# Altium integrated library Microchip Mixed Signal.IntLib: 765 symbols (part 14 of 16)
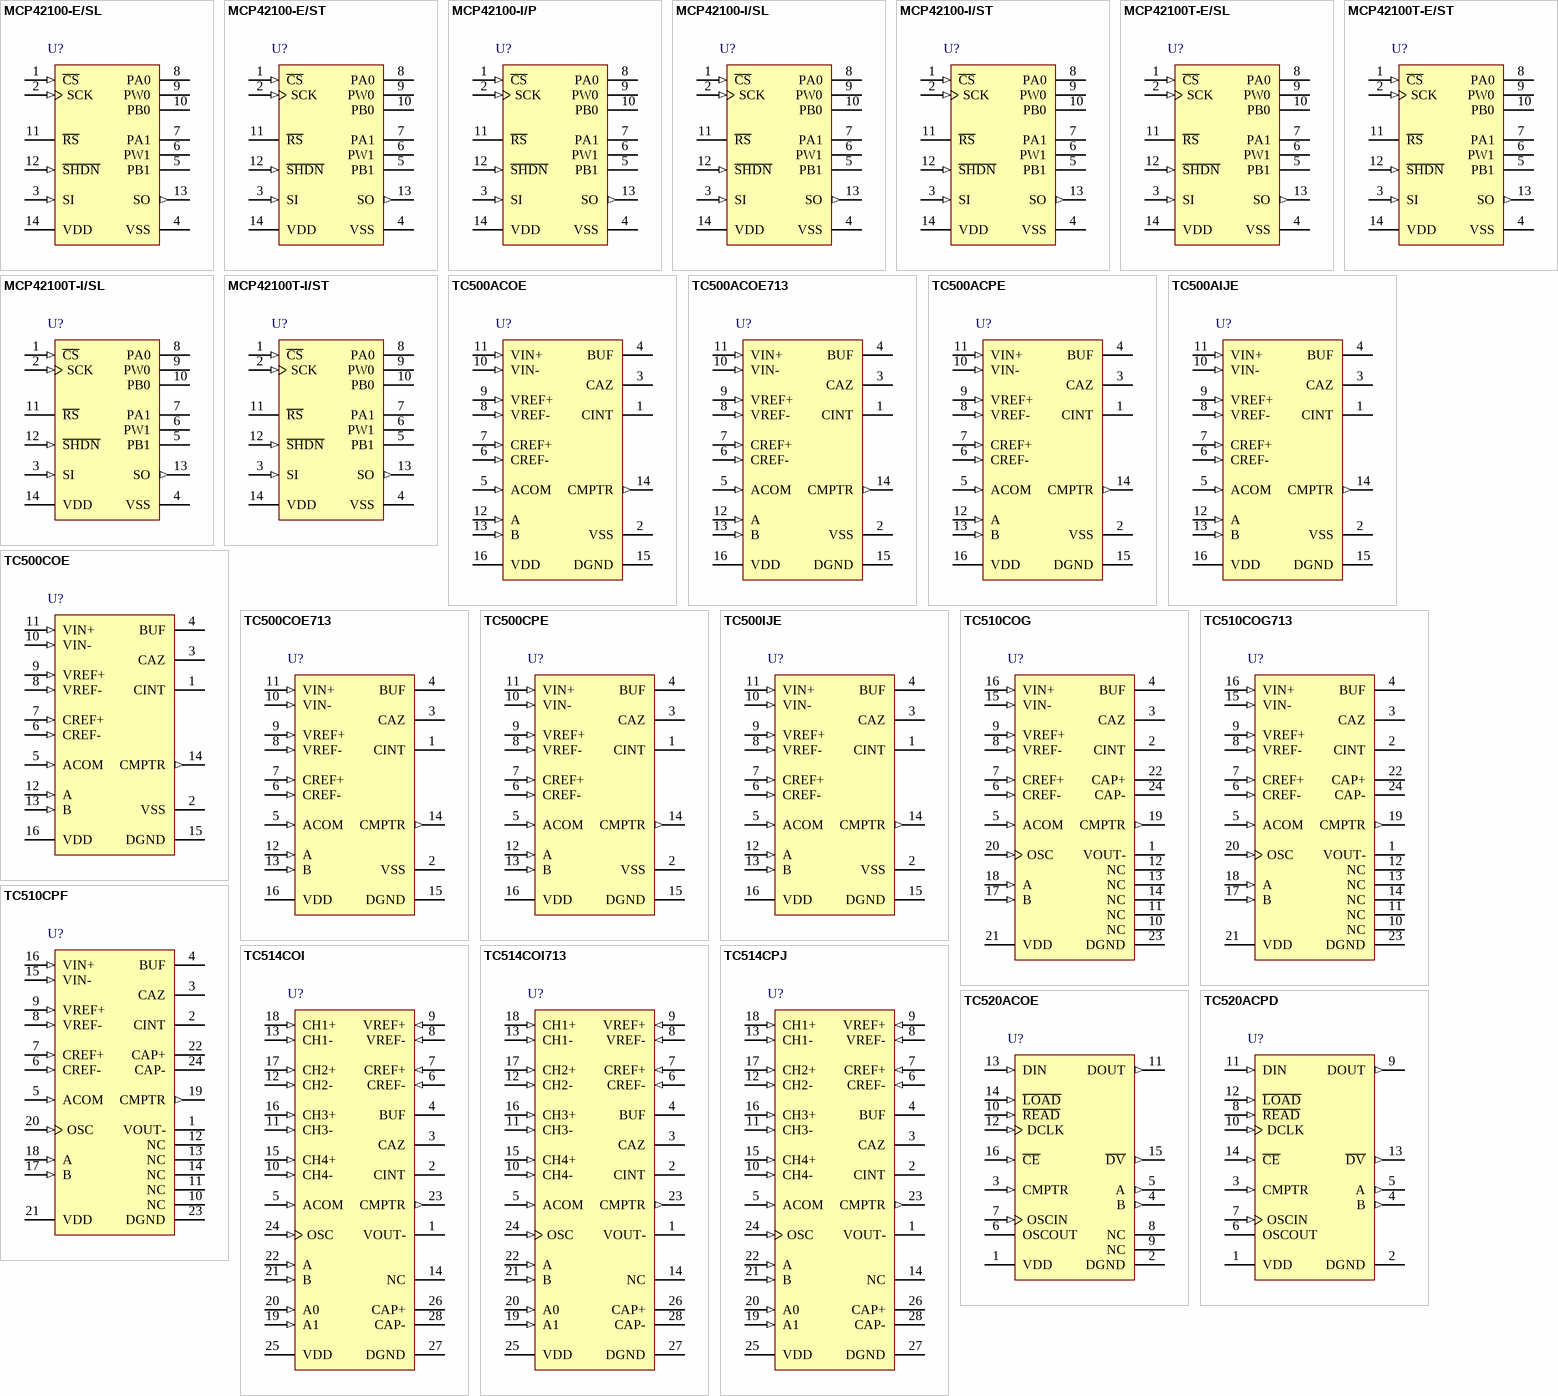
[diagram p36: symbols MCP42100-E/SL to TC520ACPD]

## MCP42100T-E/ST
designator U?
Single/Dual Digital Potentiometer with SPI Interface, 14-Pin TSSOP, Extended Temperature, Tape and Reel; Published: 29-Jan-2009; DatasheetVersion: Jul-2003; PackageVersion: revAW, Oct-2008; PackageReference: TSSOP-ST14; Publisher: Altium Limited; ComponentLink1Description: Manufacturer Link; ComponentLink1URL: http://www.microchip.com; ComponentLink2Description: Datasheet; ComponentLink2URL: http://ww1.microchip.com/downloads/en/DeviceDoc/11195c.pdf; ComponentLink3Description: Packaging Specification; ComponentLink3URL: http://ww1.microchip.com/downloads/en/PackagingSpec/00049AW.pdf
footprint TSSOP-ST14_N (TSOP, 14-Leads, Body 5x4.4mm, Pitch 0.65mm, IPC Medium Density)
footprint TSSOP-ST14_L (TSOP, 14-Leads, Body 5x4.4mm, Pitch 0.65mm, IPC High Density)
footprint TSSOP-ST14_M (TSOP, 14-Leads, Body 5x4.4mm, Pitch 0.65mm, IPC Low Density)
pins: 1 ~{CS} (in), 2 SCK (in), 3 SI (in), 4 VSS (power), 5 PB1, 6 PW1, 7 PA1, 8 PA0, 9 PW0, 10 PB0, 11 ~{RS}, 12 ~{SHDN} (in), 13 SO (out), 14 VDD (power)

## MCP42100T-I/SL
designator U?
Single/Dual Digital Potentiometer with SPI Interface, 14-Pin SOIC 150mil, Industrial Temperature, Tape and Reel; Published: 29-Jan-2009; DatasheetVersion: Jul-2003; PackageVersion: revAW, Oct-2008; PackageReference: SOIC-SL14; Publisher: Altium Limited; Code_JEDEC: MS-012-AB; Code_IPC: SOIC127P600-14; ComponentLink1Description: Manufacturer Link; ComponentLink1URL: http://www.microchip.com; ComponentLink2Description: Datasheet; ComponentLink2URL: http://ww1.microchip.com/downloads/en/DeviceDoc/11195c.pdf; ComponentLink3Description: Packaging Specification; ComponentLink3URL: http://ww1.microchip.com/downloads/en/PackagingSpec/00049AW.pdf
footprint SOIC-SL14_N (SOIC, 14-Leads, Body 8.7x3.9mm, Pitch 1.27mm, IPC Medium Density)
footprint SOIC-SL14_L (SOIC, 14-Leads, Body 8.7x3.9mm, Pitch 1.27mm, IPC High Density)
footprint SOIC-SL14_M (SOIC, 14-Leads, Body 8.7x3.9mm, Pitch 1.27mm, IPC Low Density)
pins: 1 ~{CS} (in), 2 SCK (in), 3 SI (in), 4 VSS (power), 5 PB1, 6 PW1, 7 PA1, 8 PA0, 9 PW0, 10 PB0, 11 ~{RS}, 12 ~{SHDN} (in), 13 SO (out), 14 VDD (power)

## MCP42100T-I/ST
designator U?
Single/Dual Digital Potentiometer with SPI Interface, 14-Pin TSSOP, Industrial Temperature, Tape and Reel; Published: 29-Jan-2009; DatasheetVersion: Jul-2003; PackageVersion: revAW, Oct-2008; PackageReference: TSSOP-ST14; Publisher: Altium Limited; ComponentLink1Description: Manufacturer Link; ComponentLink1URL: http://www.microchip.com; ComponentLink2Description: Datasheet; ComponentLink2URL: http://ww1.microchip.com/downloads/en/DeviceDoc/11195c.pdf; ComponentLink3Description: Packaging Specification; ComponentLink3URL: http://ww1.microchip.com/downloads/en/PackagingSpec/00049AW.pdf
footprint TSSOP-ST14_N (TSOP, 14-Leads, Body 5x4.4mm, Pitch 0.65mm, IPC Medium Density)
footprint TSSOP-ST14_L (TSOP, 14-Leads, Body 5x4.4mm, Pitch 0.65mm, IPC High Density)
footprint TSSOP-ST14_M (TSOP, 14-Leads, Body 5x4.4mm, Pitch 0.65mm, IPC Low Density)
pins: 1 ~{CS} (in), 2 SCK (in), 3 SI (in), 4 VSS (power), 5 PB1, 6 PW1, 7 PA1, 8 PA0, 9 PW0, 10 PB0, 11 ~{RS}, 12 ~{SHDN} (in), 13 SO (out), 14 VDD (power)

## TC500ACOE
designator U?
Precision Analog Front Ends, 16-Pin SOIC 300mil, Commercial Temperature; Published: 29-Jan-2009; DatasheetVersion: Jan-2006; PackageVersion: revAW, Oct-2008; PackageReference: SOIC-OE16; Publisher: Altium Limited; Code_JEDEC: MS-013-AA; Code_IPC: SOIC127P1030-16; ComponentLink1Description: Manufacturer Link; ComponentLink1URL: http://www.microchip.com; ComponentLink2Description: Datasheet; ComponentLink2URL: http://ww1.microchip.com/downloads/en/DeviceDoc/21428D.pdf; ComponentLink3Description: Packaging Specification; ComponentLink3URL: http://ww1.microchip.com/downloads/en/PackagingSpec/00049AW.pdf
footprint SOIC-OE16_N (SOIC, 16-Leads, Body 10.3x7.5mm, Pitch 1.27mm, IPC Medium Density)
footprint SOIC-OE16_L (SOIC, 16-Leads, Body 10.3x7.5mm, Pitch 1.27mm, IPC High Density)
footprint SOIC-OE16_M (SOIC, 16-Leads, Body 10.3x7.5mm, Pitch 1.27mm, IPC Low Density)
pins: 1 CINT, 2 VSS (power), 3 CAZ, 4 BUF, 5 ACOM (in), 6 CREF- (in), 7 CREF+ (in), 8 VREF- (in), 9 VREF+ (in), 10 VIN- (in), 11 VIN+ (in), 12 A (in), 13 B (in), 14 CMPTR (out), 15 DGND (power), 16 VDD (power)

## TC500ACOE713
designator U?
Precision Analog Front Ends, 16-Pin SOIC 300mil, Commercial Temperature, Tape and Reel; Published: 29-Jan-2009; DatasheetVersion: Jan-2006; PackageVersion: revAW, Oct-2008; PackageReference: SOIC-OE16; Publisher: Altium Limited; Code_JEDEC: MS-013-AA; Code_IPC: SOIC127P1030-16; ComponentLink1Description: Manufacturer Link; ComponentLink1URL: http://www.microchip.com; ComponentLink2Description: Datasheet; ComponentLink2URL: http://ww1.microchip.com/downloads/en/DeviceDoc/21428D.pdf; ComponentLink3Description: Packaging Specification; ComponentLink3URL: http://ww1.microchip.com/downloads/en/PackagingSpec/00049AW.pdf
footprint SOIC-OE16_N (SOIC, 16-Leads, Body 10.3x7.5mm, Pitch 1.27mm, IPC Medium Density)
footprint SOIC-OE16_L (SOIC, 16-Leads, Body 10.3x7.5mm, Pitch 1.27mm, IPC High Density)
footprint SOIC-OE16_M (SOIC, 16-Leads, Body 10.3x7.5mm, Pitch 1.27mm, IPC Low Density)
pins: 1 CINT, 2 VSS (power), 3 CAZ, 4 BUF, 5 ACOM (in), 6 CREF- (in), 7 CREF+ (in), 8 VREF- (in), 9 VREF+ (in), 10 VIN- (in), 11 VIN+ (in), 12 A (in), 13 B (in), 14 CMPTR (out), 15 DGND (power), 16 VDD (power)

## TC500ACPE
designator U?
Precision Analog Front Ends, 16-Pin PDIP, Commercial Temperature; Published: 29-Jan-2009; DatasheetVersion: Jan-2006; PackageVersion: revAW, Oct-2008; PackageReference: PDIP300-PE16; Publisher: Altium Limited; Code_JEDEC: MS-001-BB; ComponentLink1Description: Manufacturer Link; ComponentLink1URL: http://www.microchip.com; ComponentLink2Description: Datasheet; ComponentLink2URL: http://ww1.microchip.com/downloads/en/DeviceDoc/21428D.pdf; ComponentLink3Description: Packaging Specification; ComponentLink3URL: http://ww1.microchip.com/downloads/en/PackagingSpec/00049AW.pdf
footprint PDIP300-PE16 (DIP, 16-Leads, Row Spacing 7.62mm, Pitch 2.54mm, Body 19.2x6.6mm)
pins: 1 CINT, 2 VSS (power), 3 CAZ, 4 BUF, 5 ACOM (in), 6 CREF- (in), 7 CREF+ (in), 8 VREF- (in), 9 VREF+ (in), 10 VIN- (in), 11 VIN+ (in), 12 A (in), 13 B (in), 14 CMPTR (out), 15 DGND (power), 16 VDD (power)

## TC500AIJE
designator U?
Precision Analog Front Ends, 16-Pin CERDIP, Industrial Temperature; Published: 29-Jan-2009; DatasheetVersion: Jan-2006; PackageVersion: revAW, Oct-2008; PackageReference: CERDIP300-JE16; Publisher: Altium Limited; ComponentLink1Description: Manufacturer Link; ComponentLink1URL: http://www.microchip.com; ComponentLink2Description: Datasheet; ComponentLink2URL: http://ww1.microchip.com/downloads/en/DeviceDoc/21428D.pdf; ComponentLink3Description: Packaging Specification; ComponentLink3URL: http://ww1.microchip.com/downloads/en/PackagingSpec/00049AW.pdf
footprint CERDIP300-JE16 (DIP, 16-Leads, Row Spacing 7.62mm, Pitch 2.54mm, Body 19.3x6.9mm)
pins: 1 CINT, 2 VSS (power), 3 CAZ, 4 BUF, 5 ACOM (in), 6 CREF- (in), 7 CREF+ (in), 8 VREF- (in), 9 VREF+ (in), 10 VIN- (in), 11 VIN+ (in), 12 A (in), 13 B (in), 14 CMPTR (out), 15 DGND (power), 16 VDD (power)

## TC500COE
designator U?
Precision Analog Front Ends, 16-Pin SOIC 300mil, Commercial Temperature; Published: 29-Jan-2009; DatasheetVersion: Jan-2006; PackageVersion: revAW, Oct-2008; PackageReference: SOIC-OE16; Publisher: Altium Limited; Code_JEDEC: MS-013-AA; Code_IPC: SOIC127P1030-16; ComponentLink1Description: Manufacturer Link; ComponentLink1URL: http://www.microchip.com; ComponentLink2Description: Datasheet; ComponentLink2URL: http://ww1.microchip.com/downloads/en/DeviceDoc/21428D.pdf; ComponentLink3Description: Packaging Specification; ComponentLink3URL: http://ww1.microchip.com/downloads/en/PackagingSpec/00049AW.pdf
footprint SOIC-OE16_N (SOIC, 16-Leads, Body 10.3x7.5mm, Pitch 1.27mm, IPC Medium Density)
footprint SOIC-OE16_L (SOIC, 16-Leads, Body 10.3x7.5mm, Pitch 1.27mm, IPC High Density)
footprint SOIC-OE16_M (SOIC, 16-Leads, Body 10.3x7.5mm, Pitch 1.27mm, IPC Low Density)
pins: 1 CINT, 2 VSS (power), 3 CAZ, 4 BUF, 5 ACOM (in), 6 CREF- (in), 7 CREF+ (in), 8 VREF- (in), 9 VREF+ (in), 10 VIN- (in), 11 VIN+ (in), 12 A (in), 13 B (in), 14 CMPTR (out), 15 DGND (power), 16 VDD (power)

## TC500COE713
designator U?
Precision Analog Front Ends, 16-Pin SOIC 300mil, Commercial Temperature, Tape and Reel; Published: 29-Jan-2009; DatasheetVersion: Jan-2006; PackageVersion: revAW, Oct-2008; PackageReference: SOIC-OE16; Publisher: Altium Limited; Code_JEDEC: MS-013-AA; Code_IPC: SOIC127P1030-16; ComponentLink1Description: Manufacturer Link; ComponentLink1URL: http://www.microchip.com; ComponentLink2Description: Datasheet; ComponentLink2URL: http://ww1.microchip.com/downloads/en/DeviceDoc/21428D.pdf; ComponentLink3Description: Packaging Specification; ComponentLink3URL: http://ww1.microchip.com/downloads/en/PackagingSpec/00049AW.pdf
footprint SOIC-OE16_N (SOIC, 16-Leads, Body 10.3x7.5mm, Pitch 1.27mm, IPC Medium Density)
footprint SOIC-OE16_L (SOIC, 16-Leads, Body 10.3x7.5mm, Pitch 1.27mm, IPC High Density)
footprint SOIC-OE16_M (SOIC, 16-Leads, Body 10.3x7.5mm, Pitch 1.27mm, IPC Low Density)
pins: 1 CINT, 2 VSS (power), 3 CAZ, 4 BUF, 5 ACOM (in), 6 CREF- (in), 7 CREF+ (in), 8 VREF- (in), 9 VREF+ (in), 10 VIN- (in), 11 VIN+ (in), 12 A (in), 13 B (in), 14 CMPTR (out), 15 DGND (power), 16 VDD (power)

## TC500CPE
designator U?
Precision Analog Front Ends, 16-Pin PDIP, Commercial Temperature; Published: 29-Jan-2009; DatasheetVersion: Jan-2006; PackageVersion: revAW, Oct-2008; PackageReference: PDIP300-PE16; Publisher: Altium Limited; Code_JEDEC: MS-001-BB; ComponentLink1Description: Manufacturer Link; ComponentLink1URL: http://www.microchip.com; ComponentLink2Description: Datasheet; ComponentLink2URL: http://ww1.microchip.com/downloads/en/DeviceDoc/21428D.pdf; ComponentLink3Description: Packaging Specification; ComponentLink3URL: http://ww1.microchip.com/downloads/en/PackagingSpec/00049AW.pdf
footprint PDIP300-PE16 (DIP, 16-Leads, Row Spacing 7.62mm, Pitch 2.54mm, Body 19.2x6.6mm)
pins: 1 CINT, 2 VSS (power), 3 CAZ, 4 BUF, 5 ACOM (in), 6 CREF- (in), 7 CREF+ (in), 8 VREF- (in), 9 VREF+ (in), 10 VIN- (in), 11 VIN+ (in), 12 A (in), 13 B (in), 14 CMPTR (out), 15 DGND (power), 16 VDD (power)

## TC500IJE
designator U?
Precision Analog Front Ends, 16-Pin CERDIP, Industrial Temperature; Published: 29-Jan-2009; DatasheetVersion: Jan-2006; PackageVersion: revAW, Oct-2008; PackageReference: CERDIP300-JE16; Publisher: Altium Limited; ComponentLink1Description: Manufacturer Link; ComponentLink1URL: http://www.microchip.com; ComponentLink2Description: Datasheet; ComponentLink2URL: http://ww1.microchip.com/downloads/en/DeviceDoc/21428D.pdf; ComponentLink3Description: Packaging Specification; ComponentLink3URL: http://ww1.microchip.com/downloads/en/PackagingSpec/00049AW.pdf
footprint CERDIP300-JE16 (DIP, 16-Leads, Row Spacing 7.62mm, Pitch 2.54mm, Body 19.3x6.9mm)
pins: 1 CINT, 2 VSS (power), 3 CAZ, 4 BUF, 5 ACOM (in), 6 CREF- (in), 7 CREF+ (in), 8 VREF- (in), 9 VREF+ (in), 10 VIN- (in), 11 VIN+ (in), 12 A (in), 13 B (in), 14 CMPTR (out), 15 DGND (power), 16 VDD (power)

## TC510COG
designator U?
Precision Analog Front Ends, 24-Pin SOIC 300mil, Commercial Temperature; Published: 29-Jan-2009; DatasheetVersion: Jan-2006; PackageVersion: revAW, Oct-2008; PackageReference: SOIC-OG24; Publisher: Altium Limited; Code_JEDEC: MS-013-AD; ComponentLink1Description: Manufacturer Link; ComponentLink1URL: http://www.microchip.com; ComponentLink2Description: Datasheet; ComponentLink2URL: http://ww1.microchip.com/downloads/en/DeviceDoc/21428D.pdf; ComponentLink3Description: Packaging Specification; ComponentLink3URL: http://ww1.microchip.com/downloads/en/PackagingSpec/00049AW.pdf
footprint SOIC-OG24_N (SOIC, 24-Leads, Body 15.4x7.5mm, Pitch 1.27mm, IPC Medium Density)
footprint SOIC-OG24_L (SOIC, 24-Leads, Body 15.4x7.5mm, Pitch 1.27mm, IPC High Density)
footprint SOIC-OG24_M (SOIC, 24-Leads, Body 15.4x7.5mm, Pitch 1.27mm, IPC Low Density)
pins: 1 VOUT- (power), 2 CINT, 3 CAZ, 4 BUF, 5 ACOM (in), 6 CREF- (in), 7 CREF+ (in), 8 VREF- (in), 9 VREF+ (in), 10 NC, 11 NC, 12 NC, 13 NC, 14 NC, 15 VIN- (in), 16 VIN+ (in), 17 B (in), 18 A (in), 19 CMPTR (out), 20 OSC (in), 21 VDD (power), 22 CAP+, 23 DGND (power), 24 CAP-

## TC510COG713
designator U?
Precision Analog Front Ends, 24-Pin SOIC 300mil, Commercial Temperature, Tape and Reel; Published: 29-Jan-2009; DatasheetVersion: Jan-2006; PackageVersion: revAW, Oct-2008; PackageReference: SOIC-OG24; Publisher: Altium Limited; Code_JEDEC: MS-013-AD; ComponentLink1Description: Manufacturer Link; ComponentLink1URL: http://www.microchip.com; ComponentLink2Description: Datasheet; ComponentLink2URL: http://ww1.microchip.com/downloads/en/DeviceDoc/21428D.pdf; ComponentLink3Description: Packaging Specification; ComponentLink3URL: http://ww1.microchip.com/downloads/en/PackagingSpec/00049AW.pdf
footprint SOIC-OG24_N (SOIC, 24-Leads, Body 15.4x7.5mm, Pitch 1.27mm, IPC Medium Density)
footprint SOIC-OG24_L (SOIC, 24-Leads, Body 15.4x7.5mm, Pitch 1.27mm, IPC High Density)
footprint SOIC-OG24_M (SOIC, 24-Leads, Body 15.4x7.5mm, Pitch 1.27mm, IPC Low Density)
pins: 1 VOUT- (power), 2 CINT, 3 CAZ, 4 BUF, 5 ACOM (in), 6 CREF- (in), 7 CREF+ (in), 8 VREF- (in), 9 VREF+ (in), 10 NC, 11 NC, 12 NC, 13 NC, 14 NC, 15 VIN- (in), 16 VIN+ (in), 17 B (in), 18 A (in), 19 CMPTR (out), 20 OSC (in), 21 VDD (power), 22 CAP+, 23 DGND (power), 24 CAP-

## TC510CPF
designator U?
Precision Analog Front Ends, 24-Pin PDIP 300mil, Commercial Temperature; Published: 29-Jan-2009; DatasheetVersion: Jan-2006; PackageVersion: revAW, Oct-2008; PackageReference: SPDIP300-PF24; Publisher: Altium Limited; Code_JEDEC: MS-001-AF; ComponentLink1Description: Manufacturer Link; ComponentLink1URL: http://www.microchip.com; ComponentLink2Description: Datasheet; ComponentLink2URL: http://ww1.microchip.com/downloads/en/DeviceDoc/21428D.pdf; ComponentLink3Description: Packaging Specification; ComponentLink3URL: http://ww1.microchip.com/downloads/en/PackagingSpec/00049AW.pdf
footprint SPDIP300-PF24 (DIP, 24-Leads, Row Spacing 7.62mm, Pitch 2.54mm, Body 30.9x6.6mm)
pins: 1 VOUT- (power), 2 CINT, 3 CAZ, 4 BUF, 5 ACOM (in), 6 CREF- (in), 7 CREF+ (in), 8 VREF- (in), 9 VREF+ (in), 10 NC, 11 NC, 12 NC, 13 NC, 14 NC, 15 VIN- (in), 16 VIN+ (in), 17 B (in), 18 A (in), 19 CMPTR (out), 20 OSC (in), 21 VDD (power), 22 CAP+, 23 DGND (power), 24 CAP-

## TC514COI
designator U?
Precision Analog Front Ends, 28-Pin SOIC 300mil, Commercial Temperature; Published: 29-Jan-2009; DatasheetVersion: Jan-2006; PackageVersion: revAW, Oct-2008; PackageReference: SOIC-OI28; Publisher: Altium Limited; Code_JEDEC: MS-013-AE; ComponentLink1Description: Manufacturer Link; ComponentLink1URL: http://www.microchip.com; ComponentLink2Description: Datasheet; ComponentLink2URL: http://ww1.microchip.com/downloads/en/DeviceDoc/21428D.pdf; ComponentLink3Description: Packaging Specification; ComponentLink3URL: http://ww1.microchip.com/downloads/en/PackagingSpec/00049AW.pdf
footprint SOIC-OI28_N (SOIC, 28-Leads, Body 17.9x7.5mm, Pitch 1.27mm, IPC Medium Density)
footprint SOIC-OI28_L (SOIC, 28-Leads, Body 17.9x7.5mm, Pitch 1.27mm, IPC High Density)
footprint SOIC-OI28_M (SOIC, 28-Leads, Body 17.9x7.5mm, Pitch 1.27mm, IPC Low Density)
pins: 1 VOUT- (power), 2 CINT, 3 CAZ, 4 BUF, 5 ACOM (in), 6 CREF- (in), 7 CREF+ (in), 8 VREF- (in), 9 VREF+ (in), 10 CH4- (in), 11 CH3- (in), 12 CH2- (in), 13 CH1- (in), 14 NC, 15 CH4+ (in), 16 CH3+ (in), 17 CH2+ (in), 18 CH1+ (in), 19 A1 (in), 20 A0 (in), 21 B (in), 22 A (in), 23 CMPTR (out), 24 OSC (in), 25 VDD (power), 26 CAP+, 27 DGND (power), 28 CAP-

## TC514COI713
designator U?
Precision Analog Front Ends, 28-Pin SOIC 300mil, Commercial Temperature, Tape and Reel; Published: 29-Jan-2009; DatasheetVersion: Jan-2006; PackageVersion: revAW, Oct-2008; PackageReference: SOIC-OI28; Publisher: Altium Limited; Code_JEDEC: MS-013-AE; ComponentLink1Description: Manufacturer Link; ComponentLink1URL: http://www.microchip.com; ComponentLink2Description: Datasheet; ComponentLink2URL: http://ww1.microchip.com/downloads/en/DeviceDoc/21428D.pdf; ComponentLink3Description: Packaging Specification; ComponentLink3URL: http://ww1.microchip.com/downloads/en/PackagingSpec/00049AW.pdf
footprint SOIC-OI28_N (SOIC, 28-Leads, Body 17.9x7.5mm, Pitch 1.27mm, IPC Medium Density)
footprint SOIC-OI28_L (SOIC, 28-Leads, Body 17.9x7.5mm, Pitch 1.27mm, IPC High Density)
footprint SOIC-OI28_M (SOIC, 28-Leads, Body 17.9x7.5mm, Pitch 1.27mm, IPC Low Density)
pins: 1 VOUT- (power), 2 CINT, 3 CAZ, 4 BUF, 5 ACOM (in), 6 CREF- (in), 7 CREF+ (in), 8 VREF- (in), 9 VREF+ (in), 10 CH4- (in), 11 CH3- (in), 12 CH2- (in), 13 CH1- (in), 14 NC, 15 CH4+ (in), 16 CH3+ (in), 17 CH2+ (in), 18 CH1+ (in), 19 A1 (in), 20 A0 (in), 21 B (in), 22 A (in), 23 CMPTR (out), 24 OSC (in), 25 VDD (power), 26 CAP+, 27 DGND (power), 28 CAP-

## TC514CPJ
designator U?
Precision Analog Front Ends, 28-Pin SPDIP, Commercial Temperature; Published: 29-Jan-2009; DatasheetVersion: Jan-2006; PackageVersion: revAW, Oct-2008; PackageReference: SPDIP300-PJ28; Publisher: Altium Limited; ComponentLink1Description: Manufacturer Link; ComponentLink1URL: http://www.microchip.com; ComponentLink2Description: Datasheet; ComponentLink2URL: http://ww1.microchip.com/downloads/en/DeviceDoc/21428D.pdf; ComponentLink3Description: Packaging Specification; ComponentLink3URL: http://ww1.microchip.com/downloads/en/PackagingSpec/00049AW.pdf
footprint SPDIP300-PJ28 (DIP, 28-Leads, Row Spacing 7.62mm, Pitch 2.54mm, Body 34.9x6.8mm)
pins: 1 VOUT- (power), 2 CINT, 3 CAZ, 4 BUF, 5 ACOM (in), 6 CREF- (in), 7 CREF+ (in), 8 VREF- (in), 9 VREF+ (in), 10 CH4- (in), 11 CH3- (in), 12 CH2- (in), 13 CH1- (in), 14 NC, 15 CH4+ (in), 16 CH3+ (in), 17 CH2+ (in), 18 CH1+ (in), 19 A1 (in), 20 A0 (in), 21 B (in), 22 A (in), 23 CMPTR (out), 24 OSC (in), 25 VDD (power), 26 CAP+, 27 DGND (power), 28 CAP-

## TC520ACOE
designator U?
Serial Interface Adapter for TC500 A/D Converter Family, 16-Pin SOIC 300mil, Commercial Temperature; Published: 29-Jan-2009; DatasheetVersion: Apr-2002; PackageVersion: revAW, Oct-2008; PackageReference: SOIC-OE16; Publisher: Altium Limited; Code_JEDEC: MS-013-AA; Code_IPC: SOIC127P1030-16; ComponentLink1Description: Manufacturer Link; ComponentLink1URL: http://www.microchip.com; ComponentLink2Description: Datasheet; ComponentLink2URL: http://ww1.microchip.com/downloads/en/DeviceDoc/21431b.pdf; ComponentLink3Description: Packaging Specification; ComponentLink3URL: http://ww1.microchip.com/downloads/en/PackagingSpec/00049AW.pdf
footprint SOIC-OE16_N (SOIC, 16-Leads, Body 10.3x7.5mm, Pitch 1.27mm, IPC Medium Density)
footprint SOIC-OE16_L (SOIC, 16-Leads, Body 10.3x7.5mm, Pitch 1.27mm, IPC High Density)
footprint SOIC-OE16_M (SOIC, 16-Leads, Body 10.3x7.5mm, Pitch 1.27mm, IPC Low Density)
pins: 1 VDD (power), 2 DGND (power), 3 CMPTR (in), 4 B (out), 5 A (out), 6 OSCOUT, 7 OSCIN (in), 8 NC, 9 NC, 10 ~{READ} (in), 11 DOUT (out), 12 DCLK (in), 13 DIN (in), 14 ~{LOAD} (in), 15 ~{DV} (out), 16 ~{CE} (in)

## TC520ACPD
designator U?
Serial Interface Adapter for TC500 A/D Converter Family, 14-Pin PDIP, Commercial Temperature; Published: 29-Jan-2009; DatasheetVersion: Apr-2002; PackageVersion: revAW, Oct-2008; PackageReference: PDIP300-PD14; Publisher: Altium Limited; Code_JEDEC: MS-001-AA; ComponentLink1Description: Manufacturer Link; ComponentLink1URL: http://www.microchip.com; ComponentLink2Description: Datasheet; ComponentLink2URL: http://ww1.microchip.com/downloads/en/DeviceDoc/21431b.pdf; ComponentLink3Description: Packaging Specification; ComponentLink3URL: http://ww1.microchip.com/downloads/en/PackagingSpec/00049AW.pdf
footprint PDIP300-PD14 (DIP, 14-Leads, Row Spacing 7.62mm, Pitch 2.54mm, Body 19.2x6.6mm)
pins: 1 VDD (power), 2 DGND (power), 3 CMPTR (in), 4 B (out), 5 A (out), 6 OSCOUT, 7 OSCIN (in), 8 ~{READ} (in), 9 DOUT (out), 10 DCLK (in), 11 DIN (in), 12 ~{LOAD} (in), 13 ~{DV} (out), 14 ~{CE} (in)

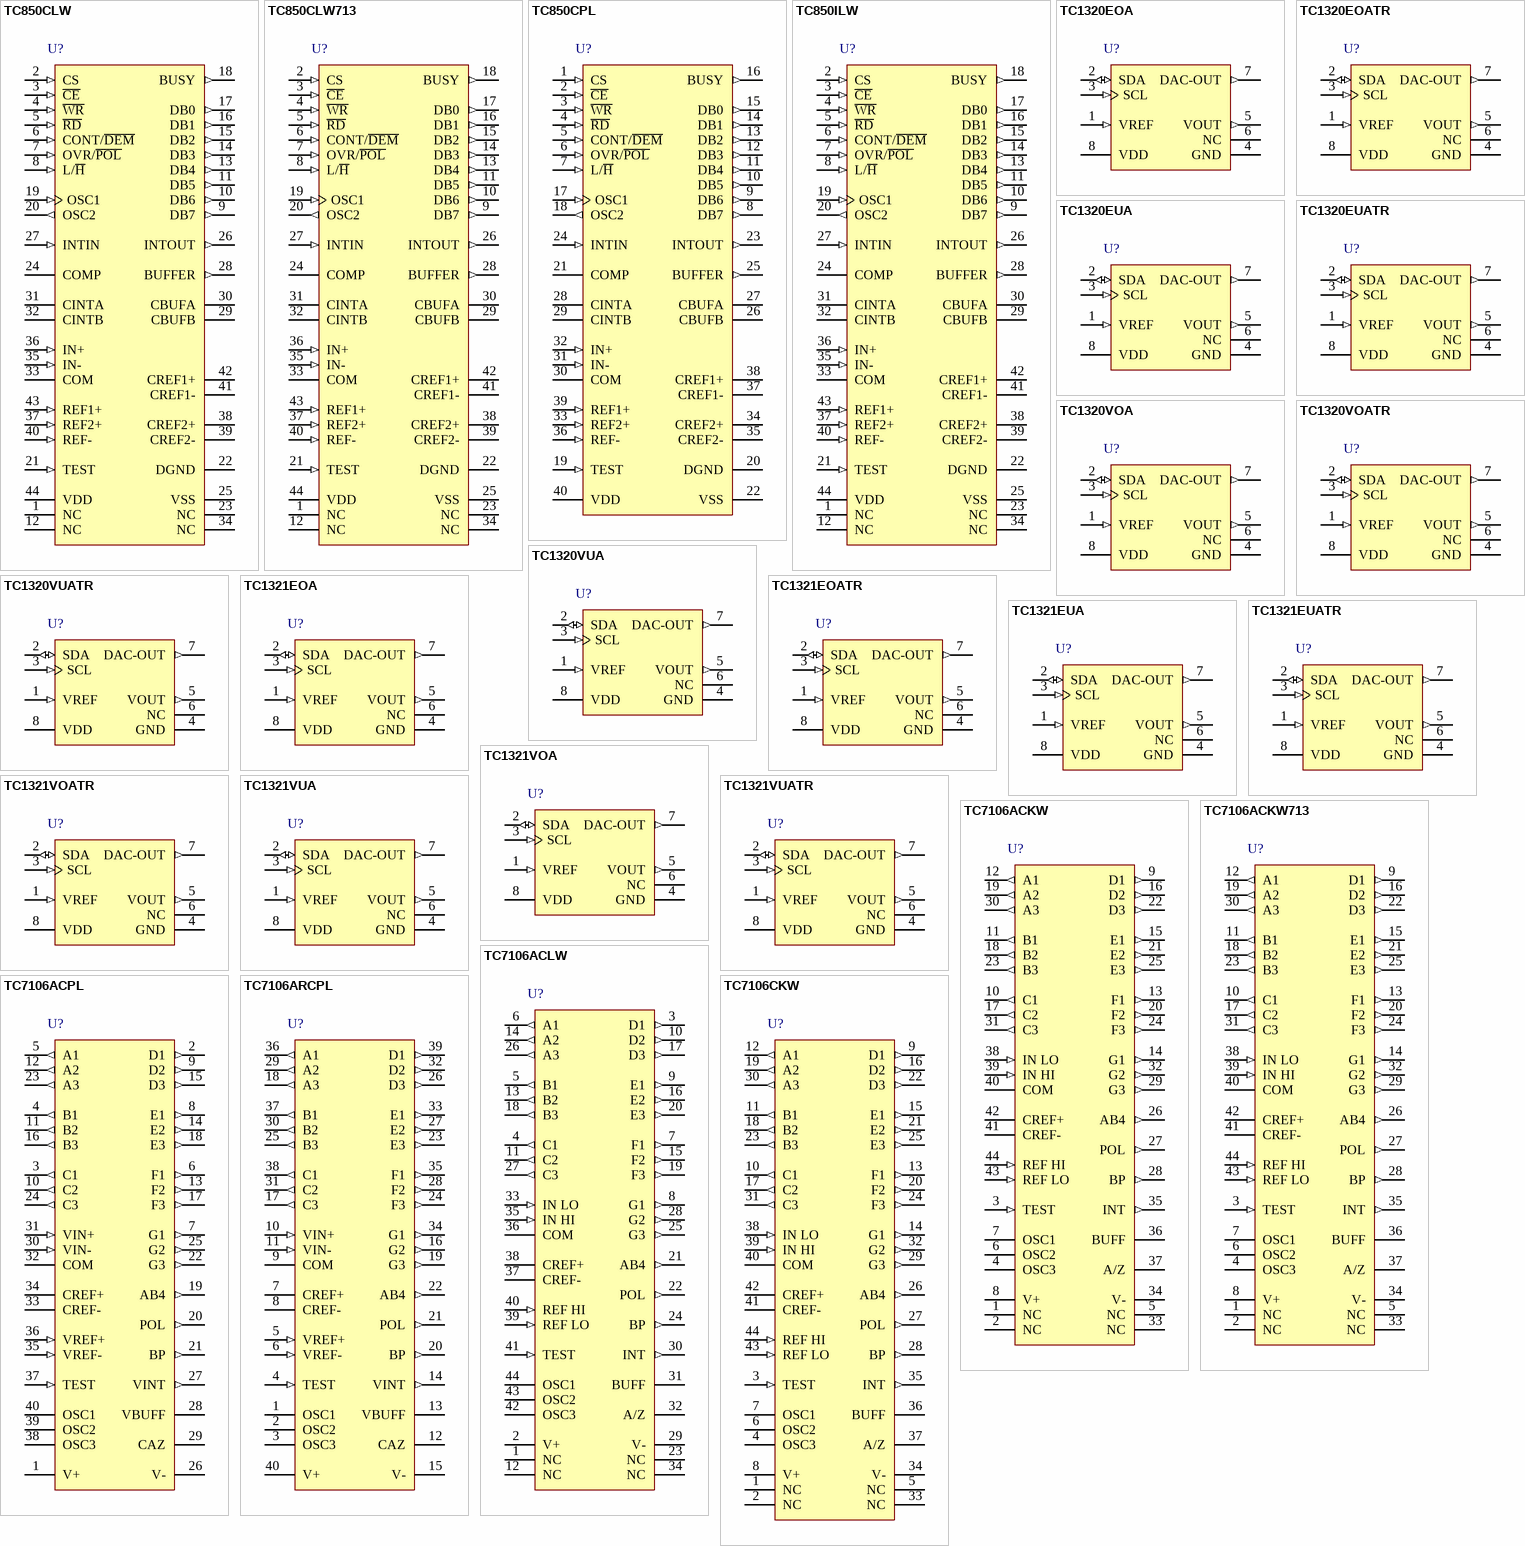
[diagram p18: symbols TC850CLW to TC7106CKW]

## TC850CLW
designator U?
15-Bit, Fast Integrating CMOS A/D Converter, 44-Pin PLCC, Commercial Temperature; Published: 29-Jan-2009; DatasheetVersion: Feb-2006; PackageVersion: revAW, Oct-2008; PackageReference: PLCC-LW44; Publisher: Altium Limited; Code_IPC: PLCC-44; ComponentLink1Description: Manufacturer Link; ComponentLink1URL: http://www.microchip.com; ComponentLink2Description: Datasheet; ComponentLink2URL: http://ww1.microchip.com/downloads/en/DeviceDoc/21479C.pdf; ComponentLink3Description: Packaging Specification; ComponentLink3URL: http://ww1.microchip.com/downloads/en/PackagingSpec/00049AW.pdf
footprint PLCC-LW44_N (Leaded Chip Carrier, 44-Leads, Body 16.6x16.6mm, Pitch 1.27mm, IPC Medium Density)
footprint PLCC-LW44_L (Leaded Chip Carrier, 44-Leads, Body 16.6x16.6mm, Pitch 1.27mm, IPC High Density)
footprint PLCC-LW44_M (Leaded Chip Carrier, 44-Leads, Body 16.6x16.6mm, Pitch 1.27mm, IPC Low Density)
pins: 1 NC, 2 CS (in), 3 ~{CE} (in), 4 ~{WR} (in), 5 ~{RD} (in), 6 CONT/~{DEM} (in), 7 OVR/~{POL} (in), 8 L/~{H} (in), 9 DB7 (out), 10 DB6 (out), 11 DB5 (out), 12 NC, 13 DB4 (out), 14 DB3 (out), 15 DB2 (out), 16 DB1 (out), 17 DB0 (out), 18 BUSY (out), 19 OSC1 (in), 20 OSC2 (out), 21 TEST (in), 22 DGND (power), 23 NC, 24 COMP, 25 VSS (power), 26 INTOUT (out), 27 INTIN (in), 28 BUFFER (out), 29 CBUFB, 30 CBUFA, 31 CINTA, 32 CINTB, 33 COM (power), 34 NC, 35 IN- (in), 36 IN+ (in), 37 REF2+ (in), 38 CREF2+, 39 CREF2-, 40 REF- (in), 41 CREF1-, 42 CREF1+, 43 REF1+ (in), 44 VDD (power)

## TC850CLW713
designator U?
15-Bit, Fast Integrating CMOS A/D Converter, 44-Pin PLCC, Commercial Temperature, Tape and Reel; Published: 29-Jan-2009; DatasheetVersion: Feb-2006; PackageVersion: revAW, Oct-2008; PackageReference: PLCC-LW44; Publisher: Altium Limited; Code_IPC: PLCC-44; ComponentLink1Description: Manufacturer Link; ComponentLink1URL: http://www.microchip.com; ComponentLink2Description: Datasheet; ComponentLink2URL: http://ww1.microchip.com/downloads/en/DeviceDoc/21479C.pdf; ComponentLink3Description: Packaging Specification; ComponentLink3URL: http://ww1.microchip.com/downloads/en/PackagingSpec/00049AW.pdf
footprint PLCC-LW44_N (Leaded Chip Carrier, 44-Leads, Body 16.6x16.6mm, Pitch 1.27mm, IPC Medium Density)
footprint PLCC-LW44_L (Leaded Chip Carrier, 44-Leads, Body 16.6x16.6mm, Pitch 1.27mm, IPC High Density)
footprint PLCC-LW44_M (Leaded Chip Carrier, 44-Leads, Body 16.6x16.6mm, Pitch 1.27mm, IPC Low Density)
pins: 1 NC, 2 CS (in), 3 ~{CE} (in), 4 ~{WR} (in), 5 ~{RD} (in), 6 CONT/~{DEM} (in), 7 OVR/~{POL} (in), 8 L/~{H} (in), 9 DB7 (out), 10 DB6 (out), 11 DB5 (out), 12 NC, 13 DB4 (out), 14 DB3 (out), 15 DB2 (out), 16 DB1 (out), 17 DB0 (out), 18 BUSY (out), 19 OSC1 (in), 20 OSC2 (out), 21 TEST (in), 22 DGND (power), 23 NC, 24 COMP, 25 VSS (power), 26 INTOUT (out), 27 INTIN (in), 28 BUFFER (out), 29 CBUFB, 30 CBUFA, 31 CINTA, 32 CINTB, 33 COM (power), 34 NC, 35 IN- (in), 36 IN+ (in), 37 REF2+ (in), 38 CREF2+, 39 CREF2-, 40 REF- (in), 41 CREF1-, 42 CREF1+, 43 REF1+ (in), 44 VDD (power)

## TC850CPL
designator U?
15-Bit, Fast Integrating CMOS A/D Converter, 40-Pin PDIP, Commercial Temperature; Published: 29-Jan-2009; DatasheetVersion: Feb-2006; PackageVersion: revAW, Oct-2008; PackageReference: PDIP600-PL40; Publisher: Altium Limited; ComponentLink1Description: Manufacturer Link; ComponentLink1URL: http://www.microchip.com; ComponentLink2Description: Datasheet; ComponentLink2URL: http://ww1.microchip.com/downloads/en/DeviceDoc/21479C.pdf; ComponentLink3Description: Packaging Specification; ComponentLink3URL: http://ww1.microchip.com/downloads/en/PackagingSpec/00049AW.pdf
footprint PDIP600-PL40 (DIP, 40-Leads, Row Spacing 15.24mm, Pitch 2.54mm, Body 51.8x13.5mm)
pins: 1 CS (in), 2 ~{CE} (in), 3 ~{WR} (in), 4 ~{RD} (in), 5 CONT/~{DEM} (in), 6 OVR/~{POL} (in), 7 L/~{H} (in), 8 DB7 (out), 9 DB6 (out), 10 DB5 (out), 11 DB4 (out), 12 DB3 (out), 13 DB2 (out), 14 DB1 (out), 15 DB0 (out), 16 BUSY (out), 17 OSC1 (in), 18 OSC2 (out), 19 TEST (in), 20 DGND (power), 21 COMP, 22 VSS (power), 23 INTOUT (out), 24 INTIN (in), 25 BUFFER (out), 26 CBUFB, 27 CBUFA, 28 CINTA, 29 CINTB, 30 COM (power), 31 IN- (in), 32 IN+ (in), 33 REF2+ (in), 34 CREF2+, 35 CREF2-, 36 REF- (in), 37 CREF1-, 38 CREF1+, 39 REF1+ (in), 40 VDD (power)

## TC850ILW
designator U?
15-Bit, Fast Integrating CMOS A/D Converter, 44-Pin PLCC, Industrial Temperature; Published: 29-Jan-2009; DatasheetVersion: Feb-2006; PackageVersion: revAW, Oct-2008; PackageReference: PLCC-LW44; Publisher: Altium Limited; Code_IPC: PLCC-44; ComponentLink1Description: Manufacturer Link; ComponentLink1URL: http://www.microchip.com; ComponentLink2Description: Datasheet; ComponentLink2URL: http://ww1.microchip.com/downloads/en/DeviceDoc/21479C.pdf; ComponentLink3Description: Packaging Specification; ComponentLink3URL: http://ww1.microchip.com/downloads/en/PackagingSpec/00049AW.pdf
footprint PLCC-LW44_N (Leaded Chip Carrier, 44-Leads, Body 16.6x16.6mm, Pitch 1.27mm, IPC Medium Density)
footprint PLCC-LW44_L (Leaded Chip Carrier, 44-Leads, Body 16.6x16.6mm, Pitch 1.27mm, IPC High Density)
footprint PLCC-LW44_M (Leaded Chip Carrier, 44-Leads, Body 16.6x16.6mm, Pitch 1.27mm, IPC Low Density)
pins: 1 NC, 2 CS (in), 3 ~{CE} (in), 4 ~{WR} (in), 5 ~{RD} (in), 6 CONT/~{DEM} (in), 7 OVR/~{POL} (in), 8 L/~{H} (in), 9 DB7 (out), 10 DB6 (out), 11 DB5 (out), 12 NC, 13 DB4 (out), 14 DB3 (out), 15 DB2 (out), 16 DB1 (out), 17 DB0 (out), 18 BUSY (out), 19 OSC1 (in), 20 OSC2 (out), 21 TEST (in), 22 DGND (power), 23 NC, 24 COMP, 25 VSS (power), 26 INTOUT (out), 27 INTIN (in), 28 BUFFER (out), 29 CBUFB, 30 CBUFA, 31 CINTA, 32 CINTB, 33 COM (power), 34 NC, 35 IN- (in), 36 IN+ (in), 37 REF2+ (in), 38 CREF2+, 39 CREF2-, 40 REF- (in), 41 CREF1-, 42 CREF1+, 43 REF1+ (in), 44 VDD (power)

## TC1320EOA
designator U?
8-Bit Digital-to-Analog Converter with Two-Wire Interface, 8-Pin SOIC 150mil, Extended Temperature; Published: 29-Jan-2009; DatasheetVersion: Jan-2002; PackageVersion: revAW, Oct-2008; PackageReference: SOIC-OA8; Publisher: Altium Limited; Code_IPC: SOIC127P600-8; ComponentLink1Description: Manufacturer Link; ComponentLink1URL: http://www.microchip.com; ComponentLink2Description: Datasheet; ComponentLink2URL: http://ww1.microchip.com/downloads/en/DeviceDoc/21386b.pdf; ComponentLink3Description: Packaging Specification; ComponentLink3URL: http://ww1.microchip.com/downloads/en/PackagingSpec/00049AW.pdf
footprint SOIC-OA8_N (SOIC, 8-Leads, Body 4.9x3.9mm, Pitch 1.27mm, IPC Medium Density)
footprint SOIC-OA8_L (SOIC, 8-Leads, Body 4.9x3.9mm, Pitch 1.27mm, IPC High Density)
footprint SOIC-OA8_M (SOIC, 8-Leads, Body 4.9x3.9mm, Pitch 1.27mm, IPC Low Density)
pins: 1 VREF (in), 2 SDA (io), 3 SCL (in), 4 GND (power), 5 VOUT (out), 6 NC, 7 DAC-OUT (out), 8 VDD (power)

## TC1320EOATR
designator U?
8-Bit Digital-to-Analog Converter with Two-Wire Interface, 8-Pin SOIC 150mil, Extended Temperature, Tape and Reel; Published: 29-Jan-2009; DatasheetVersion: Jan-2002; PackageVersion: revAW, Oct-2008; PackageReference: SOIC-OA8; Publisher: Altium Limited; Code_IPC: SOIC127P600-8; ComponentLink1Description: Manufacturer Link; ComponentLink1URL: http://www.microchip.com; ComponentLink2Description: Datasheet; ComponentLink2URL: http://ww1.microchip.com/downloads/en/DeviceDoc/21386b.pdf; ComponentLink3Description: Packaging Specification; ComponentLink3URL: http://ww1.microchip.com/downloads/en/PackagingSpec/00049AW.pdf
footprint SOIC-OA8_N (SOIC, 8-Leads, Body 4.9x3.9mm, Pitch 1.27mm, IPC Medium Density)
footprint SOIC-OA8_L (SOIC, 8-Leads, Body 4.9x3.9mm, Pitch 1.27mm, IPC High Density)
footprint SOIC-OA8_M (SOIC, 8-Leads, Body 4.9x3.9mm, Pitch 1.27mm, IPC Low Density)
pins: 1 VREF (in), 2 SDA (io), 3 SCL (in), 4 GND (power), 5 VOUT (out), 6 NC, 7 DAC-OUT (out), 8 VDD (power)

## TC1320EUA
designator U?
8-Bit Digital-to-Analog Converter with Two-Wire Interface, 8-Pin MSOP, Extended Temperature; Published: 29-Jan-2009; DatasheetVersion: Jan-2002; PackageVersion: revAW, Oct-2008; PackageReference: MSOP-UA8; Publisher: Altium Limited; Code_JEDEC: MO-187-AA; ComponentLink1Description: Manufacturer Link; ComponentLink1URL: http://www.microchip.com; ComponentLink2Description: Datasheet; ComponentLink2URL: http://ww1.microchip.com/downloads/en/DeviceDoc/21386b.pdf; ComponentLink3Description: Packaging Specification; ComponentLink3URL: http://ww1.microchip.com/downloads/en/PackagingSpec/00049AW.pdf
footprint MSOP-UA8_N (TSOP, 8-Leads, Body 3x3mm, Pitch 0.65mm, IPC Medium Density)
footprint MSOP-UA8_L (TSOP, 8-Leads, Body 3x3mm, Pitch 0.65mm, IPC High Density)
footprint MSOP-UA8_M (TSOP, 8-Leads, Body 3x3mm, Pitch 0.65mm, IPC Low Density)
pins: 1 VREF (in), 2 SDA (io), 3 SCL (in), 4 GND (power), 5 VOUT (out), 6 NC, 7 DAC-OUT (out), 8 VDD (power)

## TC1320EUATR
designator U?
8-Bit Digital-to-Analog Converter with Two-Wire Interface, 8-Pin MSOP, Extended Temperature, Tape and Reel; Published: 29-Jan-2009; DatasheetVersion: Jan-2002; PackageVersion: revAW, Oct-2008; PackageReference: MSOP-UA8; Publisher: Altium Limited; Code_JEDEC: MO-187-AA; ComponentLink1Description: Manufacturer Link; ComponentLink1URL: http://www.microchip.com; ComponentLink2Description: Datasheet; ComponentLink2URL: http://ww1.microchip.com/downloads/en/DeviceDoc/21386b.pdf; ComponentLink3Description: Packaging Specification; ComponentLink3URL: http://ww1.microchip.com/downloads/en/PackagingSpec/00049AW.pdf
footprint MSOP-UA8_N (TSOP, 8-Leads, Body 3x3mm, Pitch 0.65mm, IPC Medium Density)
footprint MSOP-UA8_L (TSOP, 8-Leads, Body 3x3mm, Pitch 0.65mm, IPC High Density)
footprint MSOP-UA8_M (TSOP, 8-Leads, Body 3x3mm, Pitch 0.65mm, IPC Low Density)
pins: 1 VREF (in), 2 SDA (io), 3 SCL (in), 4 GND (power), 5 VOUT (out), 6 NC, 7 DAC-OUT (out), 8 VDD (power)

## TC1320VOA
designator U?
8-Bit Digital-to-Analog Converter with Two-Wire Interface, 8-Pin SOIC 150mil, -40C to +125C Temperature; Published: 29-Jan-2009; DatasheetVersion: Jan-2002; PackageVersion: revAW, Oct-2008; PackageReference: SOIC-OA8; Publisher: Altium Limited; Code_IPC: SOIC127P600-8; ComponentLink1Description: Manufacturer Link; ComponentLink1URL: http://www.microchip.com; ComponentLink2Description: Datasheet; ComponentLink2URL: http://ww1.microchip.com/downloads/en/DeviceDoc/21386b.pdf; ComponentLink3Description: Packaging Specification; ComponentLink3URL: http://ww1.microchip.com/downloads/en/PackagingSpec/00049AW.pdf
footprint SOIC-OA8_N (SOIC, 8-Leads, Body 4.9x3.9mm, Pitch 1.27mm, IPC Medium Density)
footprint SOIC-OA8_L (SOIC, 8-Leads, Body 4.9x3.9mm, Pitch 1.27mm, IPC High Density)
footprint SOIC-OA8_M (SOIC, 8-Leads, Body 4.9x3.9mm, Pitch 1.27mm, IPC Low Density)
pins: 1 VREF (in), 2 SDA (io), 3 SCL (in), 4 GND (power), 5 VOUT (out), 6 NC, 7 DAC-OUT (out), 8 VDD (power)

## TC1320VOATR
designator U?
8-Bit Digital-to-Analog Converter with Two-Wire Interface, 8-Pin SOIC 150mil, -40C to +125C Temperature, Tape and Reel; Published: 29-Jan-2009; DatasheetVersion: Jan-2002; PackageVersion: revAW, Oct-2008; PackageReference: SOIC-OA8; Publisher: Altium Limited; Code_IPC: SOIC127P600-8; ComponentLink1Description: Manufacturer Link; ComponentLink1URL: http://www.microchip.com; ComponentLink2Description: Datasheet; ComponentLink2URL: http://ww1.microchip.com/downloads/en/DeviceDoc/21386b.pdf; ComponentLink3Description: Packaging Specification; ComponentLink3URL: http://ww1.microchip.com/downloads/en/PackagingSpec/00049AW.pdf
footprint SOIC-OA8_N (SOIC, 8-Leads, Body 4.9x3.9mm, Pitch 1.27mm, IPC Medium Density)
footprint SOIC-OA8_L (SOIC, 8-Leads, Body 4.9x3.9mm, Pitch 1.27mm, IPC High Density)
footprint SOIC-OA8_M (SOIC, 8-Leads, Body 4.9x3.9mm, Pitch 1.27mm, IPC Low Density)
pins: 1 VREF (in), 2 SDA (io), 3 SCL (in), 4 GND (power), 5 VOUT (out), 6 NC, 7 DAC-OUT (out), 8 VDD (power)

## TC1320VUA
designator U?
8-Bit Digital-to-Analog Converter with Two-Wire Interface, 8-Pin MSOP, -40C to +125C Temperature; Published: 29-Jan-2009; DatasheetVersion: Jan-2002; PackageVersion: revAW, Oct-2008; PackageReference: MSOP-UA8; Publisher: Altium Limited; Code_JEDEC: MO-187-AA; ComponentLink1Description: Manufacturer Link; ComponentLink1URL: http://www.microchip.com; ComponentLink2Description: Datasheet; ComponentLink2URL: http://ww1.microchip.com/downloads/en/DeviceDoc/21386b.pdf; ComponentLink3Description: Packaging Specification; ComponentLink3URL: http://ww1.microchip.com/downloads/en/PackagingSpec/00049AW.pdf
footprint MSOP-UA8_N (TSOP, 8-Leads, Body 3x3mm, Pitch 0.65mm, IPC Medium Density)
footprint MSOP-UA8_L (TSOP, 8-Leads, Body 3x3mm, Pitch 0.65mm, IPC High Density)
footprint MSOP-UA8_M (TSOP, 8-Leads, Body 3x3mm, Pitch 0.65mm, IPC Low Density)
pins: 1 VREF (in), 2 SDA (io), 3 SCL (in), 4 GND (power), 5 VOUT (out), 6 NC, 7 DAC-OUT (out), 8 VDD (power)

## TC1320VUATR
designator U?
8-Bit Digital-to-Analog Converter with Two-Wire Interface, 8-Pin MSOP, -40C to +125C Temperature, Tape and Reel; Published: 29-Jan-2009; DatasheetVersion: Jan-2002; PackageVersion: revAW, Oct-2008; PackageReference: MSOP-UA8; Publisher: Altium Limited; Code_JEDEC: MO-187-AA; ComponentLink1Description: Manufacturer Link; ComponentLink1URL: http://www.microchip.com; ComponentLink2Description: Datasheet; ComponentLink2URL: http://ww1.microchip.com/downloads/en/DeviceDoc/21386b.pdf; ComponentLink3Description: Packaging Specification; ComponentLink3URL: http://ww1.microchip.com/downloads/en/PackagingSpec/00049AW.pdf
footprint MSOP-UA8_N (TSOP, 8-Leads, Body 3x3mm, Pitch 0.65mm, IPC Medium Density)
footprint MSOP-UA8_L (TSOP, 8-Leads, Body 3x3mm, Pitch 0.65mm, IPC High Density)
footprint MSOP-UA8_M (TSOP, 8-Leads, Body 3x3mm, Pitch 0.65mm, IPC Low Density)
pins: 1 VREF (in), 2 SDA (io), 3 SCL (in), 4 GND (power), 5 VOUT (out), 6 NC, 7 DAC-OUT (out), 8 VDD (power)

## TC1321EOA
designator U?
10-Bit Digital-to-Analog Converter with Two-Wire Interface, 8-Pin SOIC 150mil, Extended Temperature; Published: 29-Jan-2009; DatasheetVersion: Jan-2002; PackageVersion: revAW, Oct-2008; PackageReference: SOIC-OA8; Publisher: Altium Limited; Code_IPC: SOIC127P600-8; ComponentLink1Description: Manufacturer Link; ComponentLink1URL: http://www.microchip.com; ComponentLink2Description: Datasheet; ComponentLink2URL: http://ww1.microchip.com/downloads/en/DeviceDoc/21387b.pdf; ComponentLink3Description: Packaging Specification; ComponentLink3URL: http://ww1.microchip.com/downloads/en/PackagingSpec/00049AW.pdf
footprint SOIC-OA8_N (SOIC, 8-Leads, Body 4.9x3.9mm, Pitch 1.27mm, IPC Medium Density)
footprint SOIC-OA8_L (SOIC, 8-Leads, Body 4.9x3.9mm, Pitch 1.27mm, IPC High Density)
footprint SOIC-OA8_M (SOIC, 8-Leads, Body 4.9x3.9mm, Pitch 1.27mm, IPC Low Density)
pins: 1 VREF (in), 2 SDA (io), 3 SCL (in), 4 GND (power), 5 VOUT (out), 6 NC, 7 DAC-OUT (out), 8 VDD (power)

## TC1321EOATR
designator U?
10-Bit Digital-to-Analog Converter with Two-Wire Interface, 8-Pin SOIC 150mil, Extended Temperature, Tape and Reel; Published: 29-Jan-2009; DatasheetVersion: Jan-2002; PackageVersion: revAW, Oct-2008; PackageReference: SOIC-OA8; Publisher: Altium Limited; Code_IPC: SOIC127P600-8; ComponentLink1Description: Manufacturer Link; ComponentLink1URL: http://www.microchip.com; ComponentLink2Description: Datasheet; ComponentLink2URL: http://ww1.microchip.com/downloads/en/DeviceDoc/21387b.pdf; ComponentLink3Description: Packaging Specification; ComponentLink3URL: http://ww1.microchip.com/downloads/en/PackagingSpec/00049AW.pdf
footprint SOIC-OA8_N (SOIC, 8-Leads, Body 4.9x3.9mm, Pitch 1.27mm, IPC Medium Density)
footprint SOIC-OA8_L (SOIC, 8-Leads, Body 4.9x3.9mm, Pitch 1.27mm, IPC High Density)
footprint SOIC-OA8_M (SOIC, 8-Leads, Body 4.9x3.9mm, Pitch 1.27mm, IPC Low Density)
pins: 1 VREF (in), 2 SDA (io), 3 SCL (in), 4 GND (power), 5 VOUT (out), 6 NC, 7 DAC-OUT (out), 8 VDD (power)

## TC1321EUA
designator U?
10-Bit Digital-to-Analog Converter with Two-Wire Interface, 8-Pin MSOP, Extended Temperature; Published: 29-Jan-2009; DatasheetVersion: Jan-2002; PackageVersion: revAW, Oct-2008; PackageReference: MSOP-UA8; Publisher: Altium Limited; Code_JEDEC: MO-187-AA; ComponentLink1Description: Manufacturer Link; ComponentLink1URL: http://www.microchip.com; ComponentLink2Description: Datasheet; ComponentLink2URL: http://ww1.microchip.com/downloads/en/DeviceDoc/21387b.pdf; ComponentLink3Description: Packaging Specification; ComponentLink3URL: http://ww1.microchip.com/downloads/en/PackagingSpec/00049AW.pdf
footprint MSOP-UA8_N (TSOP, 8-Leads, Body 3x3mm, Pitch 0.65mm, IPC Medium Density)
footprint MSOP-UA8_L (TSOP, 8-Leads, Body 3x3mm, Pitch 0.65mm, IPC High Density)
footprint MSOP-UA8_M (TSOP, 8-Leads, Body 3x3mm, Pitch 0.65mm, IPC Low Density)
pins: 1 VREF (in), 2 SDA (io), 3 SCL (in), 4 GND (power), 5 VOUT (out), 6 NC, 7 DAC-OUT (out), 8 VDD (power)

## TC1321EUATR
designator U?
10-Bit Digital-to-Analog Converter with Two-Wire Interface, 8-Pin MSOP, Extended Temperature, Tape and Reel; Published: 29-Jan-2009; DatasheetVersion: Jan-2002; PackageVersion: revAW, Oct-2008; PackageReference: MSOP-UA8; Publisher: Altium Limited; Code_JEDEC: MO-187-AA; ComponentLink1Description: Manufacturer Link; ComponentLink1URL: http://www.microchip.com; ComponentLink2Description: Datasheet; ComponentLink2URL: http://ww1.microchip.com/downloads/en/DeviceDoc/21387b.pdf; ComponentLink3Description: Packaging Specification; ComponentLink3URL: http://ww1.microchip.com/downloads/en/PackagingSpec/00049AW.pdf
footprint MSOP-UA8_N (TSOP, 8-Leads, Body 3x3mm, Pitch 0.65mm, IPC Medium Density)
footprint MSOP-UA8_L (TSOP, 8-Leads, Body 3x3mm, Pitch 0.65mm, IPC High Density)
footprint MSOP-UA8_M (TSOP, 8-Leads, Body 3x3mm, Pitch 0.65mm, IPC Low Density)
pins: 1 VREF (in), 2 SDA (io), 3 SCL (in), 4 GND (power), 5 VOUT (out), 6 NC, 7 DAC-OUT (out), 8 VDD (power)

## TC1321VOA
designator U?
10-Bit Digital-to-Analog Converter with Two-Wire Interface, 8-Pin SOIC 150mil, -40C to +125C Temperature; Published: 29-Jan-2009; DatasheetVersion: Jan-2002; PackageVersion: revAW, Oct-2008; PackageReference: SOIC-OA8; Publisher: Altium Limited; Code_IPC: SOIC127P600-8; ComponentLink1Description: Manufacturer Link; ComponentLink1URL: http://www.microchip.com; ComponentLink2Description: Datasheet; ComponentLink2URL: http://ww1.microchip.com/downloads/en/DeviceDoc/21387b.pdf; ComponentLink3Description: Packaging Specification; ComponentLink3URL: http://ww1.microchip.com/downloads/en/PackagingSpec/00049AW.pdf
footprint SOIC-OA8_N (SOIC, 8-Leads, Body 4.9x3.9mm, Pitch 1.27mm, IPC Medium Density)
footprint SOIC-OA8_L (SOIC, 8-Leads, Body 4.9x3.9mm, Pitch 1.27mm, IPC High Density)
footprint SOIC-OA8_M (SOIC, 8-Leads, Body 4.9x3.9mm, Pitch 1.27mm, IPC Low Density)
pins: 1 VREF (in), 2 SDA (io), 3 SCL (in), 4 GND (power), 5 VOUT (out), 6 NC, 7 DAC-OUT (out), 8 VDD (power)

## TC1321VOATR
designator U?
10-Bit Digital-to-Analog Converter with Two-Wire Interface, 8-Pin SOIC 150mil, -40C to +125C Temperature, Tape and Reel; Published: 29-Jan-2009; DatasheetVersion: Jan-2002; PackageVersion: revAW, Oct-2008; PackageReference: SOIC-OA8; Publisher: Altium Limited; Code_IPC: SOIC127P600-8; ComponentLink1Description: Manufacturer Link; ComponentLink1URL: http://www.microchip.com; ComponentLink2Description: Datasheet; ComponentLink2URL: http://ww1.microchip.com/downloads/en/DeviceDoc/21387b.pdf; ComponentLink3Description: Packaging Specification; ComponentLink3URL: http://ww1.microchip.com/downloads/en/PackagingSpec/00049AW.pdf
footprint SOIC-OA8_N (SOIC, 8-Leads, Body 4.9x3.9mm, Pitch 1.27mm, IPC Medium Density)
footprint SOIC-OA8_L (SOIC, 8-Leads, Body 4.9x3.9mm, Pitch 1.27mm, IPC High Density)
footprint SOIC-OA8_M (SOIC, 8-Leads, Body 4.9x3.9mm, Pitch 1.27mm, IPC Low Density)
pins: 1 VREF (in), 2 SDA (io), 3 SCL (in), 4 GND (power), 5 VOUT (out), 6 NC, 7 DAC-OUT (out), 8 VDD (power)

## TC1321VUA
designator U?
10-Bit Digital-to-Analog Converter with Two-Wire Interface, 8-Pin MSOP, -40C to +125C Temperature; Published: 29-Jan-2009; DatasheetVersion: Jan-2002; PackageVersion: revAW, Oct-2008; PackageReference: MSOP-UA8; Publisher: Altium Limited; Code_JEDEC: MO-187-AA; ComponentLink1Description: Manufacturer Link; ComponentLink1URL: http://www.microchip.com; ComponentLink2Description: Datasheet; ComponentLink2URL: http://ww1.microchip.com/downloads/en/DeviceDoc/21387b.pdf; ComponentLink3Description: Packaging Specification; ComponentLink3URL: http://ww1.microchip.com/downloads/en/PackagingSpec/00049AW.pdf
footprint MSOP-UA8_N (TSOP, 8-Leads, Body 3x3mm, Pitch 0.65mm, IPC Medium Density)
footprint MSOP-UA8_L (TSOP, 8-Leads, Body 3x3mm, Pitch 0.65mm, IPC High Density)
footprint MSOP-UA8_M (TSOP, 8-Leads, Body 3x3mm, Pitch 0.65mm, IPC Low Density)
pins: 1 VREF (in), 2 SDA (io), 3 SCL (in), 4 GND (power), 5 VOUT (out), 6 NC, 7 DAC-OUT (out), 8 VDD (power)

## TC1321VUATR
designator U?
10-Bit Digital-to-Analog Converter with Two-Wire Interface, 8-Pin MSOP, -40C to +125C Temperature, Tape and Reel; Published: 29-Jan-2009; DatasheetVersion: Jan-2002; PackageVersion: revAW, Oct-2008; PackageReference: MSOP-UA8; Publisher: Altium Limited; Code_JEDEC: MO-187-AA; ComponentLink1Description: Manufacturer Link; ComponentLink1URL: http://www.microchip.com; ComponentLink2Description: Datasheet; ComponentLink2URL: http://ww1.microchip.com/downloads/en/DeviceDoc/21387b.pdf; ComponentLink3Description: Packaging Specification; ComponentLink3URL: http://ww1.microchip.com/downloads/en/PackagingSpec/00049AW.pdf
footprint MSOP-UA8_N (TSOP, 8-Leads, Body 3x3mm, Pitch 0.65mm, IPC Medium Density)
footprint MSOP-UA8_L (TSOP, 8-Leads, Body 3x3mm, Pitch 0.65mm, IPC High Density)
footprint MSOP-UA8_M (TSOP, 8-Leads, Body 3x3mm, Pitch 0.65mm, IPC Low Density)
pins: 1 VREF (in), 2 SDA (io), 3 SCL (in), 4 GND (power), 5 VOUT (out), 6 NC, 7 DAC-OUT (out), 8 VDD (power)

## TC7106ACKW
designator U?
3-1/2 Digit Analog-to-Digital Converters, 44-Pin MQFP, Commercial Temperature; Published: 29-Jan-2009; DatasheetVersion: revD, Feb-2008; PackageVersion: revAW, Oct-2008; PackageReference: MQFP-KW44; Publisher: Altium Limited; Code_JEDEC: MS-022-AB; Code_IPC: QFP80P1320X1320-44; ComponentLink1Description: Manufacturer Link; ComponentLink1URL: http://www.microchip.com; ComponentLink2Description: Datasheet; ComponentLink2URL: http://ww1.microchip.com/downloads/en/DeviceDoc/21455d.pdf; ComponentLink3Description: Packaging Specification; ComponentLink3URL: http://ww1.microchip.com/downloads/en/PackagingSpec/00049AW.pdf
footprint MQFP-KW44_N (QFP, 44-Leads, Body 10x10mm, Pitch 0.8mm, IPC Medium Density)
footprint MQFP-KW44_L (QFP, 44-Leads, Body 10x10mm, Pitch 0.8mm, IPC High Density)
footprint MQFP-KW44_M (QFP, 44-Leads, Body 10x10mm, Pitch 0.8mm, IPC Low Density)
pins: 1 NC, 2 NC, 3 TEST (in), 4 OSC3, 5 NC, 6 OSC2, 7 OSC1, 8 V+ (power), 9 D1 (out), 10 C1 (out), 11 B1 (out), 12 A1 (out), 13 F1 (out), 14 G1 (out), 15 E1 (out), 16 D2 (out), 17 C2 (out), 18 B2 (out), 19 A2 (out), 20 F2 (out), 21 E2 (out), 22 D3 (out), 23 B3 (out), 24 F3 (out), 25 E3 (out), 26 AB4 (out), 27 POL (out), 28 BP (out), 29 G3 (out), 30 A3 (out), 31 C3 (out), 32 G2 (out), 33 NC, 34 V- (power), 35 INT (out), 36 BUFF, 37 A/Z, 38 IN LO (in), 39 IN HI (in), 40 COM (power), 41 CREF-, 42 CREF+, 43 REF LO (in), 44 REF HI (in)

## TC7106ACKW713
designator U?
3-1/2 Digit Analog-to-Digital Converters, 44-Pin MQFP, Commercial Temperature, Tape and Reel; Published: 29-Jan-2009; DatasheetVersion: revD, Feb-2008; PackageVersion: revAW, Oct-2008; PackageReference: MQFP-KW44; Publisher: Altium Limited; Code_JEDEC: MS-022-AB; Code_IPC: QFP80P1320X1320-44; ComponentLink1Description: Manufacturer Link; ComponentLink1URL: http://www.microchip.com; ComponentLink2Description: Datasheet; ComponentLink2URL: http://ww1.microchip.com/downloads/en/DeviceDoc/21455d.pdf; ComponentLink3Description: Packaging Specification; ComponentLink3URL: http://ww1.microchip.com/downloads/en/PackagingSpec/00049AW.pdf
footprint MQFP-KW44_N (QFP, 44-Leads, Body 10x10mm, Pitch 0.8mm, IPC Medium Density)
footprint MQFP-KW44_L (QFP, 44-Leads, Body 10x10mm, Pitch 0.8mm, IPC High Density)
footprint MQFP-KW44_M (QFP, 44-Leads, Body 10x10mm, Pitch 0.8mm, IPC Low Density)
pins: 1 NC, 2 NC, 3 TEST (in), 4 OSC3, 5 NC, 6 OSC2, 7 OSC1, 8 V+ (power), 9 D1 (out), 10 C1 (out), 11 B1 (out), 12 A1 (out), 13 F1 (out), 14 G1 (out), 15 E1 (out), 16 D2 (out), 17 C2 (out), 18 B2 (out), 19 A2 (out), 20 F2 (out), 21 E2 (out), 22 D3 (out), 23 B3 (out), 24 F3 (out), 25 E3 (out), 26 AB4 (out), 27 POL (out), 28 BP (out), 29 G3 (out), 30 A3 (out), 31 C3 (out), 32 G2 (out), 33 NC, 34 V- (power), 35 INT (out), 36 BUFF, 37 A/Z, 38 IN LO (in), 39 IN HI (in), 40 COM (power), 41 CREF-, 42 CREF+, 43 REF LO (in), 44 REF HI (in)

## TC7106ACLW
designator U?
3-1/2 Digit Analog-to-Digital Converters, 44-Pin PLCC, Commercial Temperature; Published: 29-Jan-2009; DatasheetVersion: revD, Feb-2008; PackageVersion: revAW, Oct-2008; PackageReference: PLCC-LW44; Publisher: Altium Limited; Code_IPC: PLCC-44; ComponentLink1Description: Manufacturer Link; ComponentLink1URL: http://www.microchip.com; ComponentLink2Description: Datasheet; ComponentLink2URL: http://ww1.microchip.com/downloads/en/DeviceDoc/21455d.pdf; ComponentLink3Description: Packaging Specification; ComponentLink3URL: http://ww1.microchip.com/downloads/en/PackagingSpec/00049AW.pdf
footprint PLCC-LW44_N (Leaded Chip Carrier, 44-Leads, Body 16.6x16.6mm, Pitch 1.27mm, IPC Medium Density)
footprint PLCC-LW44_L (Leaded Chip Carrier, 44-Leads, Body 16.6x16.6mm, Pitch 1.27mm, IPC High Density)
footprint PLCC-LW44_M (Leaded Chip Carrier, 44-Leads, Body 16.6x16.6mm, Pitch 1.27mm, IPC Low Density)
pins: 1 NC, 2 V+ (power), 3 D1 (out), 4 C1 (out), 5 B1 (out), 6 A1 (out), 7 F1 (out), 8 G1 (out), 9 E1 (out), 10 D2 (out), 11 C2 (out), 12 NC, 13 B2 (out), 14 A2 (out), 15 F2 (out), 16 E2 (out), 17 D3 (out), 18 B3 (out), 19 F3 (out), 20 E3 (out), 21 AB4 (out), 22 POL (out), 23 NC, 24 BP (out), 25 G3 (out), 26 A3 (out), 27 C3 (out), 28 G2 (out), 29 V- (power), 30 INT (out), 31 BUFF, 32 A/Z, 33 IN LO (in), 34 NC, 35 IN HI (in), 36 COM (power), 37 CREF-, 38 CREF+, 39 REF LO (in), 40 REF HI (in), 41 TEST (in), 42 OSC3, 43 OSC2, 44 OSC1

## TC7106ACPL
designator U?
3-1/2 Digit Analog-to-Digital Converters, 40-Pin PDIP, Commercial Temperature; Published: 29-Jan-2009; DatasheetVersion: revD, Feb-2008; PackageVersion: revAW, Oct-2008; PackageReference: PDIP600-PL40; Publisher: Altium Limited; ComponentLink1Description: Manufacturer Link; ComponentLink1URL: http://www.microchip.com; ComponentLink2Description: Datasheet; ComponentLink2URL: http://ww1.microchip.com/downloads/en/DeviceDoc/21455d.pdf; ComponentLink3Description: Packaging Specification; ComponentLink3URL: http://ww1.microchip.com/downloads/en/PackagingSpec/00049AW.pdf
footprint PDIP600-PL40 (DIP, 40-Leads, Row Spacing 15.24mm, Pitch 2.54mm, Body 51.8x13.5mm)
pins: 1 V+ (power), 2 D1 (out), 3 C1 (out), 4 B1 (out), 5 A1 (out), 6 F1 (out), 7 G1 (out), 8 E1 (out), 9 D2 (out), 10 C2 (out), 11 B2 (out), 12 A2 (out), 13 F2 (out), 14 E2 (out), 15 D3 (out), 16 B3 (out), 17 F3 (out), 18 E3 (out), 19 AB4 (out), 20 POL (out), 21 BP (out), 22 G3 (out), 23 A3 (out), 24 C3 (out), 25 G2 (out), 26 V- (power), 27 VINT (out), 28 VBUFF, 29 CAZ, 30 VIN- (in), 31 VIN+ (in), 32 COM (power), 33 CREF-, 34 CREF+, 35 VREF- (in), 36 VREF+ (in), 37 TEST (in), 38 OSC3, 39 OSC2, 40 OSC1

## TC7106ARCPL
designator U?
3-1/2 Digit Analog-to-Digital Converters, 40-Pin PDIP 600mil, Commercial Temperature; Published: 29-Jan-2009; DatasheetVersion: revD, Feb-2008; PackageVersion: revAW, Oct-2008; PackageReference: PDIP600-PL40; Publisher: Altium Limited; ComponentLink1Description: Manufacturer Link; ComponentLink1URL: http://www.microchip.com; ComponentLink2Description: Datasheet; ComponentLink2URL: http://ww1.microchip.com/downloads/en/DeviceDoc/21455d.pdf; ComponentLink3Description: Packaging Specification; ComponentLink3URL: http://ww1.microchip.com/downloads/en/PackagingSpec/00049AW.pdf
footprint PDIP600-PL40 (DIP, 40-Leads, Row Spacing 15.24mm, Pitch 2.54mm, Body 51.8x13.5mm)
pins: 1 OSC1, 2 OSC2, 3 OSC3, 4 TEST (in), 5 VREF+ (in), 6 VREF- (in), 7 CREF+, 8 CREF-, 9 COM (power), 10 VIN+ (in), 11 VIN- (in), 12 CAZ, 13 VBUFF, 14 VINT (out), 15 V- (power), 16 G2 (out), 17 C3 (out), 18 A3 (out), 19 G3 (out), 20 BP (out), 21 POL (out), 22 AB4 (out), 23 E3 (out), 24 F3 (out), 25 B3 (out), 26 D3 (out), 27 E2 (out), 28 F2 (out), 29 A2 (out), 30 B2 (out), 31 C2 (out), 32 D2 (out), 33 E1 (out), 34 G1 (out), 35 F1 (out), 36 A1 (out), 37 B1 (out), 38 C1 (out), 39 D1 (out), 40 V+ (power)